# Altium footprint library PcbLib1.PcbLib: 15 footprints
Each footprint in its own frame and in the unit in brackets; x right, y up, seen from the top. Pads: shape width x height; smd on the part's side, far side on the other; paste and mask are expansions set on the pad; w line width, h text height; cw(c..) or ccw(c..) is an arc to the next point about the centre after c.
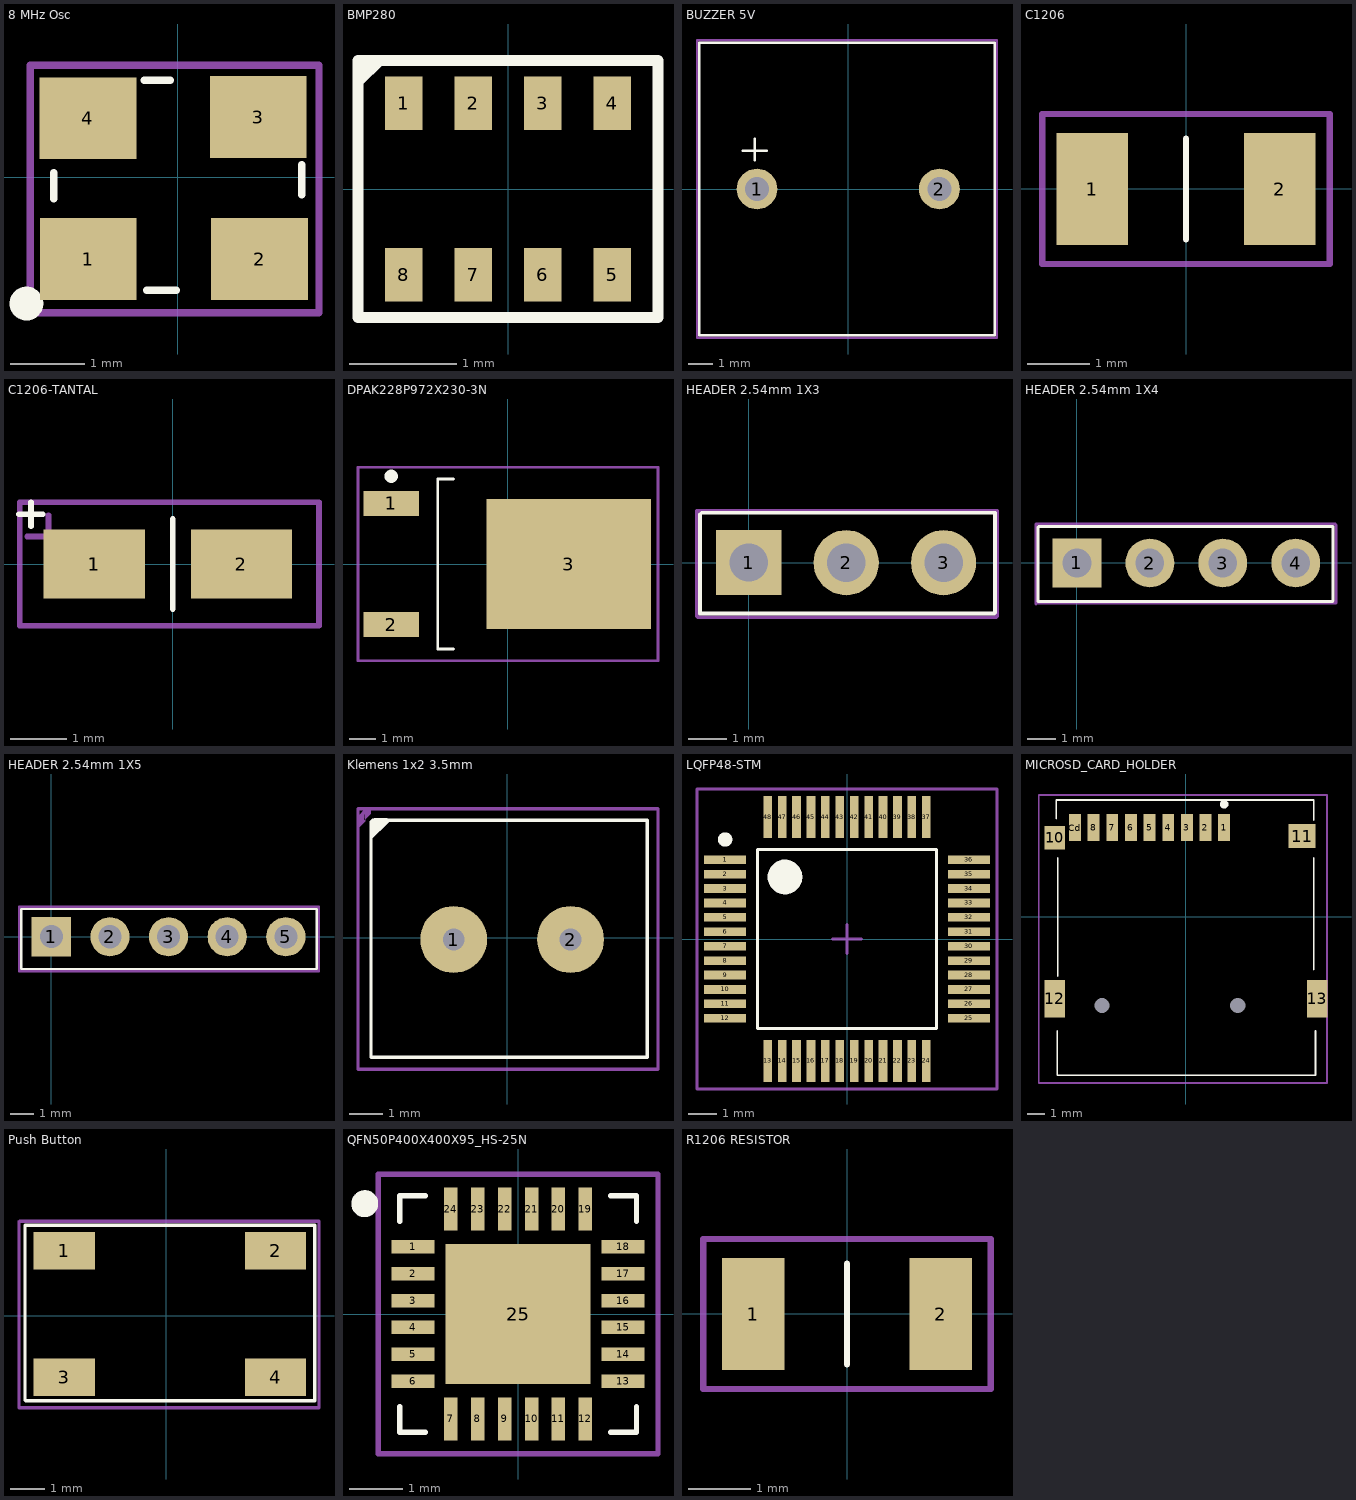
[diagram p0: the footprints below, top view; thin cyan lines are the x and y axes]

## 8 MHz Osc [mm]
pads (4):
  rect 1.3x1.1 smd mask+0.05: 1(-1.203,-1.099) 2(1.097,-1.099) 3(1.082,0.808) 4(-1.207,0.792)
Top Overlay:
  circle w0.254: c-2.034,-1.697 r0.1
  lines w0.1: -1.667,-0.291 -1.667,0.063 ; -0.454,1.3 -0.1,1.3 ; -0.42,-1.52 -0.02,-1.52 ; 1.663,-0.233 1.663,0.167
Mechanical 3:
  circle w0.254: c-1.437,-1.133 r0.1
  lines w0.1: -1.983,-1.82 1.897,-1.82 1.897,1.504 -1.983,1.504 -1.983,-1.82
3D body "ASE3.STEP": height 1.43, standoff 0.17, extent -1.6,-1.45 1.6,1.05

## BMP280 [mm]
pads (8):
  rect 0.35x0.5 smd mask+0.05: 1(-0.975,0.8) 2(-0.325,0.8) 3(0.325,0.8) 4(0.975,0.8) 5(0.975,-0.8) 6(0.325,-0.8) 7(-0.325,-0.8) 8(-0.975,-0.8)
Top Overlay:
  lines w0.1: -1.3,1.1 -1.4,1.2 ; -1.2,1.2 -1.4,1 -1.4,1.2 ; -1.4,1.2 -1.4,-1.2 1.4,-1.2 1.4,1.2 -1.4,1.2
3D body "User Library-BMP280.STEP": height 1, standoff 0.04, extent -1.25,-1 1.25,1

## BUZZER 5V [mm]
pads (2):
  round 1.7 hole 1: 1(-3.8,0) 2(3.8,0)
Top Overlay:
  lines w0.1: -4.4,1.6 -3.4,1.6 ; -3.9,1.2 -3.9,2.1 ; -6.2,-6.1 -6.2,6.1 6.1,6.1 6.1,-6.1 -6.2,-6.1
Mechanical 3:
  lines w0.1: -6.3,-6.2 -6.3,6.2 6.2,6.2 6.2,-6.2 -6.3,-6.2
3D body "cem-1205c.stp": height 9.5, standoff -4.5, extent -6.05,-5.95 5.95,6.05

## C1206 [mm]
pads (2):
  rect 1.15x1.8 smd mask+0.05: 1(-1.5,0) 2(1.5,0)
Top Overlay:
  lines w0.1: 0,-0.805 0,0.805
Mechanical 3:
  lines w0.1: -2.3,-1.2 2.3,-1.2 2.3,1.2 -2.3,1.2 -2.3,-1.2
3D body "1206CAP.step": height 1.05, standoff 0.05, extent -1.6,-0.8 1.6,0.8

## C1206-TANTAL [mm]
pads (3):
  rect 1.8x1.23 smd mask+0.05: 1(-1.4,0) 1(-1.4,0) 2(1.22,0)
Top Overlay:
  lines w0.1: -2.737,0.888 -2.312,0.888 ; -2.525,0.675 -2.525,1.1 ; 0,-0.8 0,0.8
Mechanical 3:
  lines w0.1: -2.594,0.489 -1.832,0.489 ; -2.213,0.108 -2.213,0.87 ; -2.725,-1.1 -2.725,1.1 2.6,1.1 2.6,-1.1 -2.725,-1.1
3D body "User Library-CaseA_3216-18.step": height 1.62, standoff 0.02, extent -1.7,-0.8 1.5,0.8

## DPAK228P972X230-3N [mm] "D-PAK, 3-Pads, Body 6.30x6.56mm (max), IPC Medium Density"
height 2.3
pads (3):
  rect 2.1x0.95 smd mask+0.07: 1(-4.4,2.28) 2(-4.4,-2.28)
  rect 6.2x4.9 smd: 3(2.286,0)
Top Overlay:
  circle w0.25: c-4.4,3.305 r0.125
  lines w0.1: -2.05,-3.2 -2.65,-3.2 -2.65,3.2 -2.05,3.2
Mechanical 3:
  lines w0.1: -0.5,0 0.5,0 ; 0,-0.5 0,0.5 ; -5.65,-3.65 -5.65,3.65 5.65,3.65 5.65,-3.65 -5.65,-3.65
3D body: height 2.3, standoff 0.2, extent -2.65,-3.2 3.75,3.2

## HEADER 2.54mm 1X3 [mm]
pads (3):
  rect 1.7x1.7 hole 1: 1(0,0)
  round 1.7 hole 1: 2(2.542,-0.004) 3(5.082,-0.004)
Top Overlay:
  lines w0.1: -1.275,-1.325 6.4,-1.325 6.425,-1.3 6.425,1.3 -1.225,1.3 -1.275,1.25 -1.275,-1.325
Mechanical 3:
  lines w0.1: -1.35,-1.4 -1.35,1.35 6.475,1.35 6.475,-1.4 6.45,-1.425 -1.325,-1.425
3D body "User Library-ZL262-3SG.step": height 9.1, standoff -2.45, extent -1.235,-1.275 6.385,1.225

## HEADER 2.54mm 1X4 [mm]
pads (4):
  rect 1.7x1.7 hole 1: 1(0,0)
  round 1.7 hole 1: 2(2.542,-0.004) 3(5.082,-0.004) 4(7.622,-0.004)
Top Overlay:
  lines w0.1: -1.35,-1.35 8.9,-1.35 8.925,-1.325 8.925,1.275 -1.325,1.275 -1.35,1.25 -1.35,-1.35
Mechanical 3:
  lines w0.1: -1.425,-1.425 -1.4,-1.4 9.025,-1.4 9.025,1.325 9,1.35 -1.425,1.35 -1.425,-1.425
3D body "User Library-ZL262-4SG.step": height 9.1, standoff -2.45, extent -1.31,-1.3 8.85,1.2

## HEADER 2.54mm 1X5 [mm]
pads (5):
  rect 1.7x1.7 hole 1: 1(0,0)
  round 1.7 hole 1: 2(2.542,-0.004) 3(5.082,-0.004) 4(7.622,-0.004) 5(10.162,-0.004)
Top Overlay:
  lines w0.1: -1.3,-1.4 11.5,-1.4 11.5,1.2 -1.3,1.2 -1.3,-1.4
Mechanical 3:
  lines w0.1: -1.4,-1.5 11.6,-1.5 11.6,1.3 -1.4,1.3 -1.4,-1.5
3D body "User Library-ZL262-5SG (1).step": height 9.1, standoff -2.45, extent -1.248,-1.304 11.452,1.196

## Klemens 1x2 3.5mm [mm]
pads (2):
  round 2 hole 0.65: 1(-1.6,-0.05) 2(1.9,-0.05)
Top Overlay:
  region: -3.533,3.482 -4.106,2.909 -4.106,3.444 -3.972,3.577 -3.593,3.577
  lines w0.1: -4.075,3.475 -4.075,-3.575 4.2,-3.575 4.2,3.525 -4.025,3.525
Mechanical 3:
  region: -4.248,3.86 -4.464,3.644 -4.464,3.861 -4.462,3.86 -4.248,3.86 -4.248,3.496 -4.462,3.282 -4.462,3.86 -4.248,3.86 -4.241,3.853 -4.082,3.853 -4.082,3.709 -4.285,3.507
  lines w0.1: -4.462,-3.922 -4.462,3.86 -4.248,3.86 4.517,3.86 4.517,-3.931 -4.453,-3.931 -4.462,-3.922
3D body "terminal_blocks_a-tb350-te02.stp": height 8.9, standoff -3.29, extent -3.897,-3.6 4.097,3.4

## LQFP48-STM [mm] "TSQFP, 48-Leads, Body 7.00x7.00mm, Pitch 0.50mm, IPC Medium Density"
height 1.6
pads (48):
  rect 1.45x0.3 smd mask+0.05: 1(-4.225,2.75) 2(-4.225,2.25) 3(-4.225,1.75) 4(-4.225,1.25) 5(-4.225,0.75) 6(-4.225,0.25) 7(-4.225,-0.25) 8(-4.225,-0.75) 9(-4.225,-1.25) 10(-4.225,-1.75) 11(-4.225,-2.25) 12(-4.225,-2.75) 25(4.225,-2.75) 26(4.225,-2.25) 27(4.225,-1.75) 28(4.225,-1.25) 29(4.225,-0.75) 30(4.225,-0.25) 31(4.225,0.25) 32(4.225,0.75) 33(4.225,1.25) 34(4.225,1.75) 35(4.225,2.25) 36(4.225,2.75)
  rect 0.3x1.45 smd mask+0.05: 13(-2.75,-4.225) 14(-2.25,-4.225) 15(-1.75,-4.225) 16(-1.25,-4.225) 17(-0.75,-4.225) 18(-0.25,-4.225) 19(0.25,-4.225) 20(0.75,-4.225) 21(1.25,-4.225) 22(1.75,-4.225) 23(2.25,-4.225) 24(2.75,-4.225) 37(2.75,4.225) 38(2.25,4.225) 39(1.75,4.225) 40(1.25,4.225) 41(0.75,4.225) 42(0.25,4.225) 43(-0.25,4.225) 44(-0.75,4.225) 45(-1.25,4.225) 46(-1.75,4.225) 47(-2.25,4.225) 48(-2.75,4.225)
Top Overlay:
  circle w0.6: c-2.15,2.15 r0.3
  circle w0.25: c-4.225,3.45 r0.125
  lines w0.1: -3.1,-3.1 3.1,-3.1 3.1,3.1 -3.1,3.1 -3.1,-3.1
Mechanical 3:
  lines w0.1: -0.5,0 0.5,0 ; 0,-0.5 0,0.5 ; -5.2,-5.2 5.2,-5.2 5.2,5.2 -5.2,5.2 -5.2,-5.2
3D body "LQFP48-STM.step": height 1.6, standoff 0, extent -4.5,-4.5 4.5,4.5

## MICROSD_CARD_HOLDER [mm]
pads (15):
  rect 0.7x1.6 smd paste+0 mask+0: 1(2.25,5.25) 2(1.15,5.25) 3(0.05,5.25) 4(-1.05,5.25) 5(-2.15,5.25) 6(-3.25,5.25) 7(-4.35,5.25) 8(-5.45,5.25) Cd(-6.55,5.25)
  rect 1.2x1.4 smd paste+0 mask+0: 10(-7.75,4.65)
  rect 1.6x1.4 smd paste+0 mask+0: 11(6.85,4.75)
  rect 1.2x2.2 smd paste+0 mask+0: 12(-7.75,-4.85) 13(7.75,-4.85)
  round 0 hole 0.9 unplated paste-1000 mask+0: ""(-4.95,-5.25) ""(3.05,-5.25)
Top Overlay:
  circle w0.25: c2.25,6.625 r0.125
  lines w0.1: -7.659,5.775 -7.659,6.875 7.541,6.875 7.541,5.675 ; -7.591,-6.75 -7.591,-9.373 7.641,-9.373 7.641,-6.75 ; -7.559,-3.525 -7.559,3.475 ; 7.541,-3.125 7.541,3.475
Mechanical 3:
  lines w0.1: -8.684,-9.825 8.316,-9.825 8.316,7.175 8.066,7.175 -8.184,7.175 -8.684,7.175 -8.684,-9.825
3D body "User Library-MEM2055-00-190-01-A_revG.step": height 1.85, standoff -0.6, extent -8.001,-9.245 7.999,6.005

## Push Button [mm]
pads (4):
  rect 1.8x1.1 smd mask+0.05: 1(-3,1.9) 2(3.2,1.9) 3(-3,-1.8) 4(3.2,-1.8)
Top Overlay:
  lines w0.1: -4.15,-2.475 -4.15,2.65 4.35,2.65 4.35,-2.5 -4.125,-2.5
Mechanical 3:
  lines w0.1: -4.325,-2.7 -4.325,2.75 -4.3,2.775 4.475,2.775 4.475,-2.7 -4.325,-2.7
3D body "User Library-4x4_SMD_Switch.step": height 1.5, standoff 0, extent -3.2,-2.6 3.2,2.6

## QFN50P400X400X95_HS-25N [mm] "QFN, 24-Leads, Body 4.00x4.00mm, Pitch 0.50mm, Thermal Pad 2.70x2.60mm, IPC Medium Density"
height 0.95
pads (25):
  rect 0.8x0.25 smd mask+0.05: 1(-1.95,1.25) 2(-1.95,0.75) 3(-1.95,0.25) 4(-1.95,-0.25) 5(-1.95,-0.75) 6(-1.95,-1.25) 13(1.95,-1.25) 14(1.95,-0.75) 15(1.95,-0.25) 16(1.95,0.25) 17(1.95,0.75) 18(1.95,1.25)
  rect 0.25x0.8 smd mask+0.05: 7(-1.25,-1.95) 8(-0.75,-1.95) 9(-0.25,-1.95) 10(0.25,-1.95) 11(0.75,-1.95) 12(1.25,-1.95) 19(1.25,1.95) 20(0.75,1.95) 21(0.25,1.95) 22(-0.25,1.95) 23(-0.75,1.95) 24(-1.25,1.95)
  rect 2.7x2.6 smd mask+0.075: 25(0,0)
Top Overlay:
  circle w0.25: c-2.85,2.05 r0.125
  lines w0.1: -2.2,-1.725 -2.2,-2.2 -1.725,-2.2 ; -2.2,1.725 -2.2,2.2 -1.725,2.2 ; 1.725,-2.2 2.2,-2.2 2.2,-1.725 ; 1.725,2.2 2.2,2.2 2.2,1.725
Mechanical 3:
  lines w0.1: -0.5,0 0.5,0 ; 0,-0.5 0,0.5 ; -2.6,-2.6 2.6,-2.6 2.6,2.6 -2.6,2.6 -2.6,-2.6
3D body: height 0.95, standoff 0.01, extent -2.05,-2.05 2.05,2.05

## R1206 RESISTOR [mm]
pads (2):
  rect 1x1.8 smd mask+0.05: 1(-1.5,0) 2(1.5,0)
Top Overlay:
  lines w0.1: 0,-0.805 0,0.805
Mechanical 3:
  lines w0.1: -2.3,-1.2 -2.3,1.2 2.3,1.2 2.3,-1.2 -2.3,-1.2
3D body "1206RES.step": height 0.55, standoff 0, extent -1.6,-0.805 1.6,0.805